# EAGLE library part STA540 (library SparkFun-IC-Special-Function)
Multiwatt package for L298 bridge driver
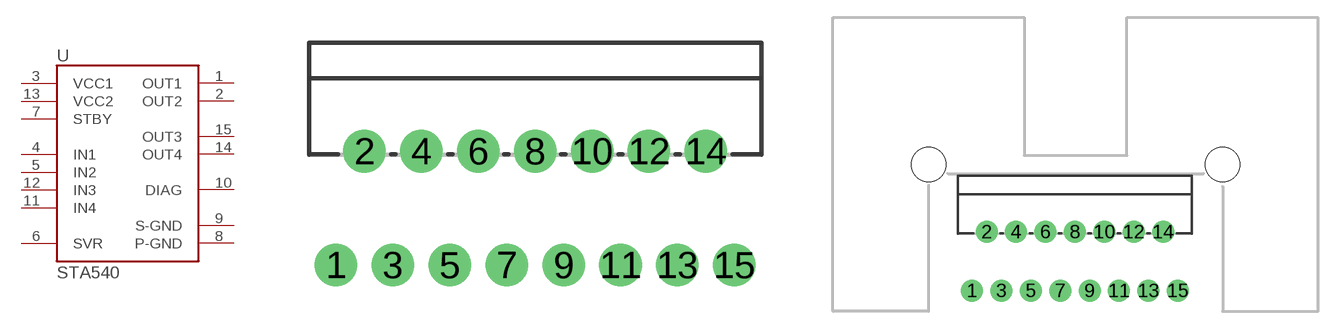
[diagram p1: symbol with the pads of MULTIWATT15; footprints MULTIWATT15, MULTIWATT15_6400BGHEATSINK]

Designator prefix -

## STA540  [MULTIWATT15]
1  OUT1
2  OUT2
3  VCC1
4  IN1
5  IN2
6  SVR
7  STBY
8  P-GND
9  S-GND
10  DIAG
11  IN4
12  IN3
13  VCC2
14  OUT4
15  OUT3

## STA540W/6400BG_HEATSINK  [MULTIWATT15_6400BGHEATSINK]
Pads as for MULTIWATT15

## STA540W/YB324G_HEATSINK  [MULTIWATT15_YB324GHEATSINK]
Pads as for MULTIWATT15

## STA5406400BG_W/SOLDERPOSTS  [MULTIWATT15_6400BGHEATSINK_2]
Pads as for MULTIWATT15

## Footprint MULTIWATT15 (pad centres in mm)
Multiwatt15V package for the L298 dual full bridge driver
drill 1.1 pad 1.9: 1 -8.95,-2.39; 2 -7.68,2.69; 3 -6.41,-2.39; 4 -5.14,2.69; 5 -3.87,-2.39; 6 -2.6,2.69; 7 -1.33,-2.39; 8 -0.06,2.69; 9 1.21,-2.39; 10 2.48,2.69; 11 3.75,-2.39; 12 5.02,2.69; 13 6.29,-2.39; 14 7.56,2.69; 15 8.83,-2.39

## Footprint MULTIWATT15_6400BGHEATSINK (pad centres in mm)
drill 1.1 pad 1.9: 1 -8.95,-2.39; 2 -7.68,2.69; 3 -6.41,-2.39; 4 -5.14,2.69; 5 -3.87,-2.39; 6 -2.6,2.69; 7 -1.33,-2.39; 8 -0.06,2.69; 9 1.21,-2.39; 10 2.48,2.69; 11 3.75,-2.39; 12 5.02,2.69; 13 6.29,-2.39; 14 7.56,2.69; 15 8.83,-2.39
hole 2.997 at -12.7,8.509
hole 2.997 at 12.7,8.509

## Footprint MULTIWATT15_YB324GHEATSINK (pad centres in mm)
drill 1.1 pad 1.9: 1 -8.95,-2.39; 2 -7.68,2.69; 3 -6.41,-2.39; 4 -5.14,2.69; 5 -3.87,-2.39; 6 -2.6,2.69; 7 -1.33,-2.39; 8 -0.06,2.69; 9 1.21,-2.39; 10 2.48,2.69; 11 3.75,-2.39; 12 5.02,2.69; 13 6.29,-2.39; 14 7.56,2.69; 15 8.83,-2.39
hole 2.997 at 19.152,4.445
hole 2.997 at -19.152,4.445

## Footprint MULTIWATT15_6400BGHEATSINK_2 (pad centres in mm)
drill 1.1 pad 1.9: 1 -8.95,-2.39; 2 -7.68,2.69; 3 -6.41,-2.39; 4 -5.14,2.69; 5 -3.87,-2.39; 6 -2.6,2.69; 7 -1.33,-2.39; 8 -0.06,2.69; 9 1.21,-2.39; 10 2.48,2.69; 11 3.75,-2.39; 12 5.02,2.69; 13 6.29,-2.39; 14 7.56,2.69; 15 8.83,-2.39
drill 2.413 pad 3.81: P$1 -12.7,8.509; P$2 12.7,8.509